# Altium footprint library PcbLib1.PcbLib: 1 footprints
Each footprint in its own frame and in the unit in brackets; x right, y up, seen from the top. Pads: shape width x height; smd on the part's side, far side on the other; paste and mask are expansions set on the pad; w line width, h text height; cw(c..) or ccw(c..) is an arc to the next point about the centre after c.
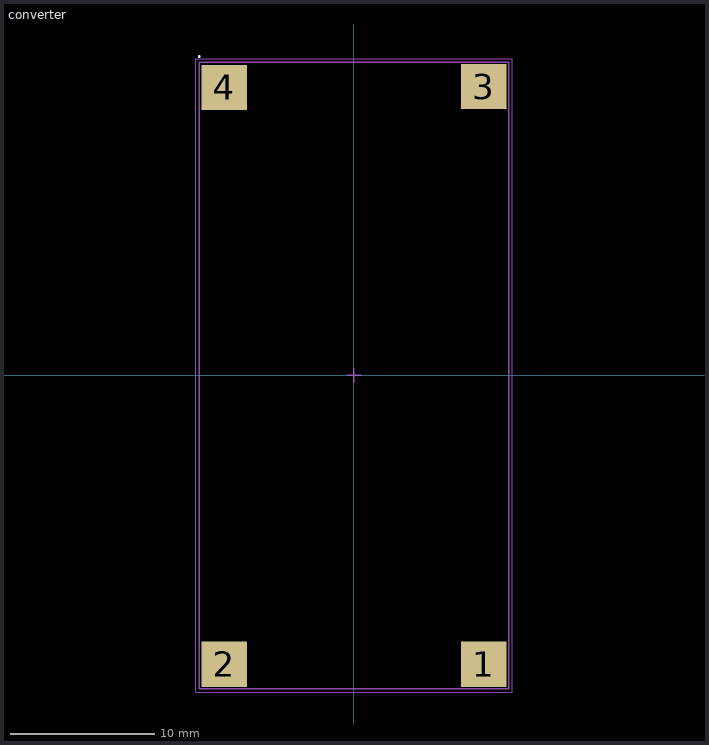
[diagram p0: the footprint, top view; thin cyan lines are the x and y axes]

## converter [mm] "converter"
height 0.45
pads (4):
  rect 3.15x3.15 smd: 1(9.017,-20.066) 2(-9.017,-20.066) 3(9.017,20.066) 4(-9,20)
Top Overlay:
  circle w0.1: c-10.75,22.15 r0.05
Mechanical 13:
  lines w0.1: -10.75,-21.75 10.75,-21.75 10.75,21.75 -10.75,21.75 -10.75,-21.75
Mechanical 15:
  lines w0.05: -11,-22 11,-22 11,22 -11,22 -11,-22
  lines w0.1: -0.5,0 0.5,0 ; 0,-0.5 0,0.5
3D body: height 0.45, standoff 0, extent -10.75,-21.75 10.75,21.75